# EAGLE library part OPA552UA/2K5 (library NIPCB)
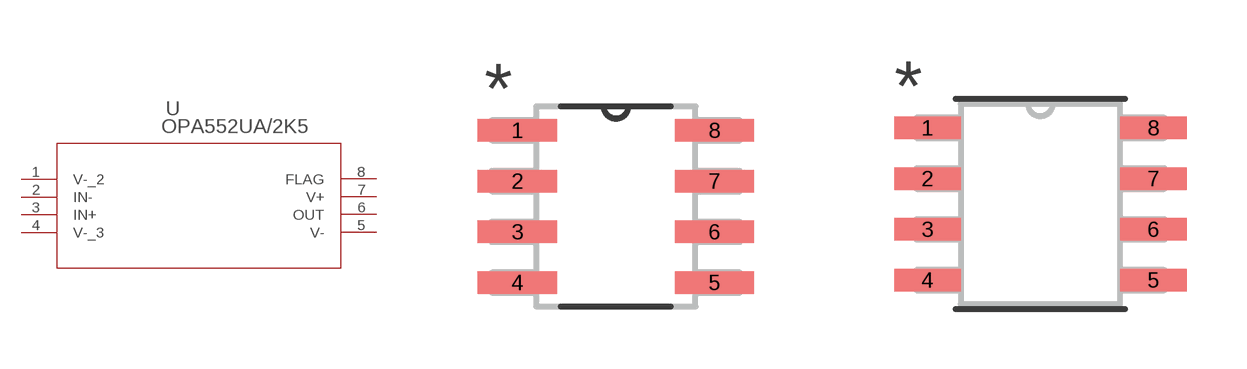
[diagram p9: symbol with the pads of D8; footprints D8, D8-M]

Designator prefix U

## OPA552UA/2K5D8 (COPYRIGHT: Copyright (C) 2024 Ultra Librarian. All rights reserved.; MANUFACTURER_PART_NUMBER: OPA552UA/2K5; MFR_NAME: Texas Instruments)  [D8]
1  V-_2  pwr
2  IN-  in
3  IN+  in
4  V-_3  pwr
5  V-  pwr
6  OUT  out
7  V+  pwr
8  FLAG  pas

## OPA552UA/2K5D8-M (COPYRIGHT: Copyright (C) 2024 Ultra Librarian. All rights reserved.; MANUFACTURER_PART_NUMBER: OPA552UA/2K5; MFR_NAME: Texas Instruments)  [D8-M]
Pads as for D8

## OPA552UA/2K5D8-L (COPYRIGHT: Copyright (C) 2024 Ultra Librarian. All rights reserved.; MANUFACTURER_PART_NUMBER: OPA552UA/2K5; MFR_NAME: Texas Instruments)  [D8-L]
Pads as for D8

## Footprint D8 (pad centres in mm)
smd 1.981 x 0.559: 1 -2.464,1.905; 2 -2.464,0.635; 3 -2.464,-0.635; 4 -2.464,-1.905; 5 2.464,-1.905; 6 2.464,-0.635; 7 2.464,0.635; 8 2.464,1.905

## Footprint D8-M (pad centres in mm)
smd 1.664 x 0.559: 1 -2.826,1.905; 2 -2.826,0.635; 3 -2.826,-0.635; 4 -2.826,-1.905; 5 2.826,-1.905; 6 2.826,-0.635; 7 2.826,0.635; 8 2.826,1.905

## Footprint D8-L (pad centres in mm)
smd 1.257 x 0.508: 1 -2.623,1.905; 2 -2.623,0.635; 3 -2.623,-0.635; 4 -2.623,-1.905; 5 2.623,-1.905; 6 2.623,-0.635; 7 2.623,0.635; 8 2.623,1.905